# Altium footprint library Nano.PcbLib: 9 footprints
Each footprint in its own frame and in the unit in brackets; x right, y up, seen from the top. Pads: shape width x height; smd on the part's side, far side on the other; paste and mask are expansions set on the pad; w line width, h text height; cw(c..) or ccw(c..) is an arc to the next point about the centre after c.
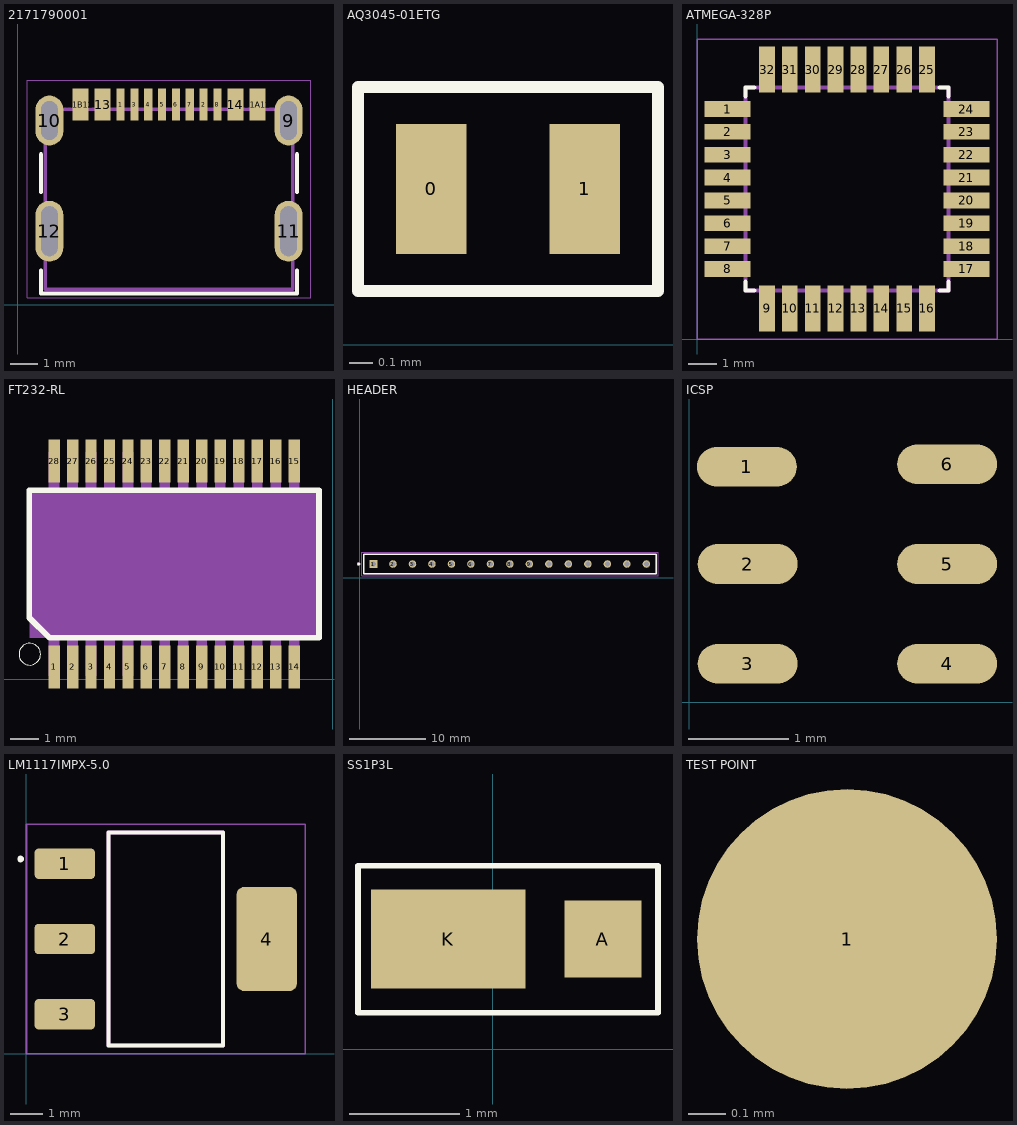
[diagram p0: the footprints below, top view; thin cyan lines are the x and y axes]

## 2171790001 [mm]
height 3.16
pads (16):
  rect 0.298x1.15 smd mask+0.064: 1(3.711,7.235) 2(6.711,7.235) 3(4.211,7.235) 4(4.711,7.235) 5(5.211,7.235) 6(5.711,7.235) 7(6.211,7.235) 8(7.211,7.235)
  oval 1x1.8 hole 0.6 slot 1.4 at 90 deg mask+0.064: 9(9.781,6.66) 10(1.141,6.66)
  oval 1x2.2 hole 0.6 slot 1.8 at 90 deg mask+0.064: 11(9.781,2.66) 12(1.141,2.66)
  rect 0.59x1.15 smd mask+0.064: 13(3.061,7.235) 14(7.861,7.235) A1B12(2.261,7.235) B1A12(8.661,7.235)
Top Overlay:
  lines w0.15: 0.841,1.24 0.841,0.41 10.081,0.41 10.081,1.24 ; 0.841,4.08 0.841,5.44 ; 10.081,4.08 10.081,5.44
Mechanical 13:
  lines w0.13: 0.991,0.56 0.991,7.06 9.931,7.06 9.931,0.56 0.991,0.56
Mechanical 15:
  lines w0.01: 0.341,0.26 10.581,0.26 10.581,8.11 0.341,8.11 0.341,0.26
3D body "2171790001--3DModel-STEP-510211.STEP": height 3.24, standoff -0.52, extent 0.991,0.687 9.931,7.437

## AQ3045-01ETG [mm]
pads (2):
  rect 0.3x0.55 smd mask+0.051: 0(0.513,0.66) 1(1.163,0.66)
Top Overlay:
  lines w0.05: 0.203,0.229 0.203,0.66 0.203,1.092 1.473,1.092 1.473,0.229 0.289,0.229 0.203,0.229
3D body "AQ3045-01ETG--3DModel-STEP-510211.STEP": height 0.55, standoff 0, extent 0.338,0.314 1.338,0.914

## ATMEGA-328P [mm]
pads (32):
  rect 1.6x0.55 smd paste+0 mask+0.076: 1(1.07,8.05) 2(1.07,7.25) 3(1.07,6.45) 4(1.07,5.65) 5(1.07,4.85) 6(1.07,4.05) 7(1.07,3.25) 8(1.07,2.45) 17(9.43,2.45) 18(9.43,3.25) 19(9.43,4.05) 20(9.43,4.85) 21(9.43,5.65) 22(9.43,6.45) 23(9.43,7.25) 24(9.43,8.05)
  rect 0.55x1.6 smd paste+0 mask+0.076: 9(2.45,1.07) 10(3.25,1.07) 11(4.05,1.07) 12(4.85,1.07) 13(5.65,1.07) 14(6.45,1.07) 15(7.25,1.07) 16(8.05,1.07) 25(8.05,9.43) 26(7.25,9.43) 27(6.45,9.43) 28(5.65,9.43) 29(4.85,9.43) 30(4.05,9.43) 31(3.25,9.43) 32(2.45,9.43)
Top Overlay:
  lines w0.152: 1.7,2 1.7,1.7 2,1.7 ; 1.7,8.5 1.7,8.8 2,8.8 ; 8.5,1.7 8.8,1.7 8.8,2 ; 8.5,8.8 8.8,8.8 8.8,8.5
Mechanical 13:
  lines w0.152: 1.7,1.7 1.7,8.8 8.8,8.8 8.8,1.7 1.7,1.7
Mechanical 15:
  lines w0.05: 0,0 0,10.5 10.5,10.5 10.5,0 0,0
3D body "step_temp.STEP": height 1.2, standoff 0, extent 0.75,0.75 9.75,9.75

## FT232-RL [mm]
pads (28):
  rect 0.4x1.5 smd paste+0 mask+0.076: 1(-9.813,0.439) 2(-9.163,0.439) 3(-8.513,0.439) 4(-7.863,0.439) 5(-7.213,0.439) 6(-6.563,0.439) 7(-5.913,0.439) 8(-5.263,0.439) 9(-4.613,0.439) 10(-3.963,0.439) 11(-3.313,0.439) 12(-2.663,0.439) 13(-2.013,0.439) 14(-1.363,0.439) 15(-1.363,7.689) 16(-2.013,7.689) 17(-2.663,7.689) 18(-3.313,7.689) 19(-3.963,7.689) 20(-4.613,7.689) 21(-5.263,7.689) 22(-5.913,7.689) 23(-6.563,7.689) 24(-7.213,7.689) 25(-7.863,7.689) 26(-8.513,7.689) 27(-9.163,7.689) 28(-9.813,7.689)
Top Overlay:
  circle w0: c-10.668,0.889 r0.381
  lines w0.203: -10.688,2.174 -10.688,6.664 -0.488,6.664 -0.488,1.464 -9.978,1.464 -10.688,2.174
Mechanical 13:
  region: -9.635,0.125 -9.993,0.125 -9.993,1.422 -9.635,1.422
  region: -8.985,0.119 -9.348,0.119 -9.348,1.422 -8.985,1.422
  region: -8.335,0.125 -8.692,0.125 -8.692,1.422 -8.335,1.422
  region: -7.685,0.121 -8.044,0.121 -8.044,1.422 -7.685,1.422
  region: -7.035,0.125 -7.392,0.125 -7.392,1.422 -7.035,1.422
  region: -6.385,0.121 -6.743,0.121 -6.743,1.422 -6.385,1.422
  region: -5.735,0.119 -6.092,0.119 -6.092,1.422 -5.735,1.422
  region: -5.085,0.127 -5.441,0.127 -5.441,1.422 -5.085,1.422
  region: -4.435,0.124 -4.79,0.124 -4.79,1.422 -4.435,1.422
  region: -3.785,0.123 -4.139,0.123 -4.139,1.422 -3.785,1.422
  region: -3.135,0.124 -3.489,0.124 -3.489,1.422 -3.135,1.422
  region: -2.485,0.127 -2.841,0.127 -2.841,1.422 -2.485,1.422
  region: -1.835,0.122 -2.187,0.122 -2.187,1.422 -1.835,1.422
  region: -1.185,0.125 -1.538,0.125 -1.538,1.422 -1.185,1.422
  region: -1.185,6.708 -1.537,6.708 -1.537,8.001 -1.185,8.001
  region: -1.835,6.71 -2.184,6.71 -2.184,8.001 -1.835,8.001
  region: -2.485,6.711 -2.835,6.711 -2.835,8.001 -2.485,8.001
  region: -3.135,6.709 -3.488,6.709 -3.488,8.001 -3.135,8.001
  region: -3.785,6.709 -4.139,6.709 -4.139,8.001 -3.785,8.001
  region: -4.435,6.707 -4.79,6.707 -4.79,8.001 -4.435,8.001
  region: -5.085,6.708 -5.441,6.708 -5.441,8.001 -5.085,8.001
  region: -5.735,6.708 -6.091,6.708 -6.091,8.001 -5.735,8.001
  region: -6.385,6.71 -6.743,6.71 -6.743,8.001 -6.385,8.001
  region: -7.035,6.71 -7.394,6.71 -7.394,8.001 -7.035,8.001
  region: -7.685,6.708 -8.043,6.708 -8.043,8.001 -7.685,8.001
  region: -8.335,6.71 -8.696,6.71 -8.696,8.001 -8.335,8.001
  region: -8.985,6.707 -9.343,6.707 -9.343,8.001 -8.985,8.001
  region: -9.635,6.708 -9.994,6.708 -9.994,8.001 -9.635,8.001
Mechanical 15:
  region: -0.508,1.46 -10.676,1.46 -10.676,6.664 -0.508,6.664
3D body "step_temp.STEP": height 2, standoff 0, extent -10.688,0.164 -0.488,7.964

## HEADER [mm]
pads (15):
  rect 0.985x0.985 hole 0.635: 1(1.778,1.778)
  round 0.985 hole 0.635: 2(4.318,1.778) 3(6.858,1.778) 4(9.398,1.778) 5(11.938,1.778) 6(14.478,1.778) 7(17.018,1.778) 8(19.558,1.778) 9(22.098,1.778) 10(24.638,1.778) 11(27.178,1.778) 12(29.718,1.778) 13(32.258,1.778) 14(34.798,1.778) 15(37.338,1.778)
Top Overlay:
  circle w0.2: c-0.142,1.778 r0.1
  lines w0.2: 0.508,0.508 38.608,0.508 38.608,3.048 0.508,3.048 0.508,0.508
Mechanical 13:
  circle w0.2: c-0.142,1.778 r0.1
  lines w0.1: 0.508,0.508 0.508,3.048 ; 0.508,0.508 38.608,0.508 ; 0.508,0.508 0.508,3.048 ; 0.508,3.048 38.608,3.048 ; 0.508,3.048 38.608,3.048 ; 38.608,0.508 38.608,3.048 ; 38.608,0.508 38.608,3.048
Mechanical 15:
  lines w0.05: 0.258,0.258 38.858,0.258 38.858,3.298 0.258,3.298 0.258,0.258
3D body "TS-115-G-AA.stp": height 8.28, standoff -3.84, extent 0.406,0.508 38.71,3.048

## ICSP [mm]
pads (6):
  oval 1x0.4 smd: 1(0.578,2.362) 2(0.584,1.388) 3(0.584,0.388) 4(2.584,0.388) 5(2.584,1.388) 6(2.584,2.388)

## LM1117IMPX-5.0 [mm]
height 1.8
pads (4):
  rrect25% 1.84x0.93 smd: 1(1.17,5.8) 2(1.17,3.5) 3(1.17,1.2)
  rrect25% 1.84x3.19 smd: 4(7.34,3.5)
Top Overlay:
  circle w0.102: c-0.178,5.944 r0.051
  lines w0.127: 2.505,0.25 6.005,0.25 6.005,6.75 2.505,6.75 2.505,0.25
Mechanical 13:
  lines w0.127: 2.505,0.25 6.005,0.25 6.005,6.75 2.505,6.75 2.505,0.25
Mechanical 15:
  lines w0.05: 0,0 0,7 8.51,7 8.51,0 0,0
3D body "step_temp.STEP": height 1.8, standoff 0, extent 0.756,0.25 7.754,6.75

## SS1P3L [mm]
pads (2):
  rect 0.7x0.7 smd mask+0.05: A(1,1)
  rect 1.4x0.9 smd paste+0 mask+0.05: K(-0.4,1)
Top Overlay:
  lines w0.05: -1.219,0.33 -1.219,1.663 -0.54,1.663 0.819,1.663 1.499,1.663 1.499,0.33 0.819,0.33 -0.54,0.33 -1.219,0.33
3D body "SS1P3L--3DModel-STEP-269445.STEP": height 0.73, standoff 0, extent -1.098,0.315 1.402,1.615

## TEST POINT [mm]
pads (1):
  round 0.8 smd: 1(0.483,0.508)